# EAGLE library part SI570 (library NBitWonder)
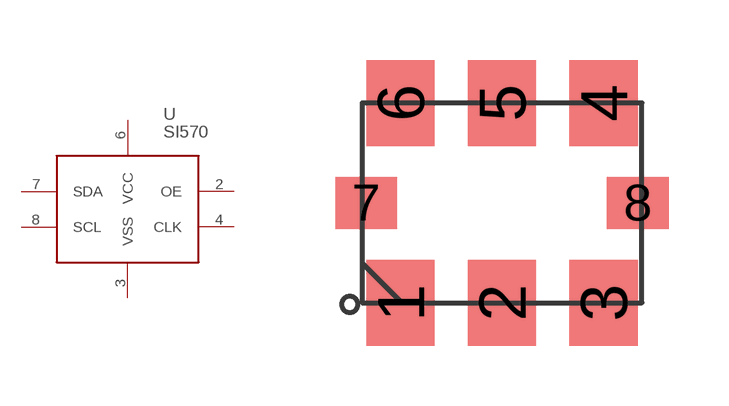
[diagram p27: symbol with the pads of SI570; footprint SI570]

Designator prefix -

## SI570  [SI570]
2  OE
3  VSS
4  CLK
6  VCC
7  SDA
8  SCL

## Footprint SI570 (pad centres in mm)
smd 1.7 x 2.15: 1 -2.54,-2.5; 2 0,-2.5; 3 2.54,-2.5; 4 2.54,2.5; 5 0,2.5; 6 -2.54,2.5
smd 1.545 x 1.3: 7 -3.4,0; 8 3.4,0